# EAGLE library part AM3N-*D (library _hhn_aimtec_am3n)
aimtec AM3N Series: 3 W DC/DC-Converters; ±10% Input Range; DIL24-compatible AM3N-xxyyD: Dual output (±); 1000 V I/O-isolation Packages: DIL24-compatible, metal Note: actual pin assignment depends on output configuration and i/o-isolation voltage, see description Source: http://www.aimtec.ca (DC-DC Converters Catalogue Rev. 1.1) Technologies: xx input voltage (V) yy output voltage (V) (D) Dual output (±) (none) 1000 V I/O-isolation voltage Author: Dipl.-Ing. FH Rainer Bayer HHN Hochschule Heilbronn (Heilbronn University), rainer.bayer@hs-heilbronn.de Ingenieurbüro ing-rb, mail@ing-rb.de
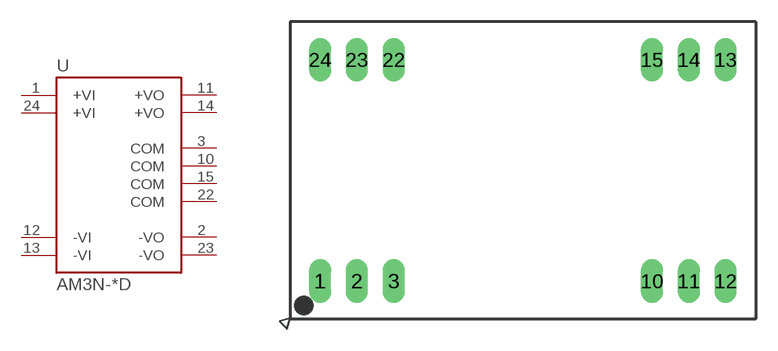
[diagram p1: symbol with the pads of AM3N_DIL24; footprint AM3N_DIL24]

Designator prefix U

## AM3N-0505D, AM3N-0507D, AM3N-0509D, AM3N-0512D, AM3N-0515D, AM3N-0518D, AM3N-0524D, AM3N-1205D, AM3N-1207D, AM3N-1209D, AM3N-1212D, AM3N-1215D, AM3N-1218D, AM3N-1224D, AM3N-2405D, AM3N-2407D, AM3N-2409D, AM3N-2412D, AM3N-2415D, AM3N-2418D, AM3N-2424D, AM3N-XXYYD  [AM3N_DIL24]
1  +VI  pwr
2  -VO  sup
3  COM  sup
10  COM  sup
11  +VO  sup
12  -VI  pwr
13  -VI  pwr
14  +VO  sup
15  COM  sup
22  COM  sup
23  -VO  sup
24  +VI  pwr

## Footprint AM3N_DIL24 (pad centres in mm)
aimtec 3W DC/DC-converter: DIL24, 1000 V I/O-isolation source: http://aimtec.ca; DC-DC Converters Catalogue Rev. 1.1
drill 1 long: 1 -13.97,-7.62; 2 -11.43,-7.62; 3 -8.89,-7.62; 10 8.89,-7.62; 11 11.43,-7.62; 12 13.97,-7.62; 13 13.97,7.62; 14 11.43,7.62; 15 8.89,7.62; 22 -8.89,7.62; 23 -11.43,7.62; 24 -13.97,7.62